# Altium footprint library 0527450897.PcbLib: 1 footprints
Each footprint in its own frame and in the unit in brackets; x right, y up, seen from the top. Pads: shape width x height; smd on the part's side, far side on the other; paste and mask are expansions set on the pad; w line width, h text height; cw(c..) or ccw(c..) is an arc to the next point about the centre after c.
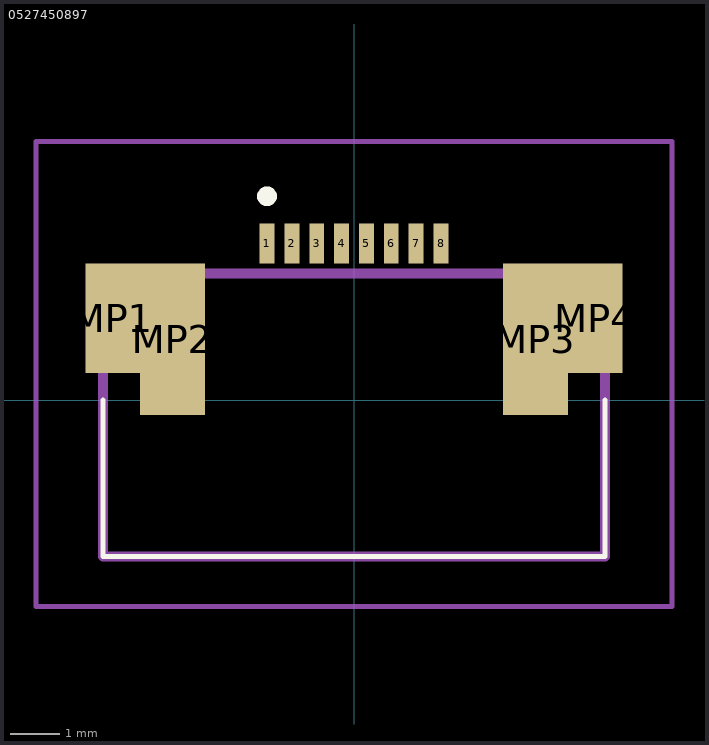
[diagram p0: the footprint, top view; thin cyan lines are the x and y axes]

## 0527450897 [mm]
pads (12):
  rect 0.3x0.8 smd: 1(-1.75,3.15) 2(-1.25,3.15) 3(-0.75,3.15) 4(-0.25,3.15) 5(0.25,3.15) 6(0.75,3.15) 7(1.25,3.15) 8(1.75,3.15)
  rect 1.1x2.2 smd: MP1(-4.85,1.65) MP4(4.85,1.65)
  rect 1.3x3.05 smd: MP2(-3.65,1.225) MP3(3.65,1.225)
Top Overlay:
  lines w0.1: -5.05,0 -5.05,-3.15 5.05,-3.15 5.05,0
  lines w0.2: -1.75,4 -1.75,4 ; -1.75,4 ccw(c-1.75,4.1) -1.75,4.2 ; -1.75,4 cw(c-1.75,4.1) -1.75,4.2 ; -1.75,4.2 -1.75,4.2
Mechanical 15:
  lines w0.2: -5.05,-3.15 5.05,-3.15 5.05,2.55 -5.05,2.55 -5.05,-3.15
Mechanical 20:
  lines w0.1: -6.4,-4.15 6.4,-4.15 6.4,5.2 -6.4,5.2 -6.4,-4.15